# EAGLE library part SN74LVC112ADGVR (library bc_custom)
Dual Negative-Edge-Triggered J-K Flip-Flop With Clear And Preset
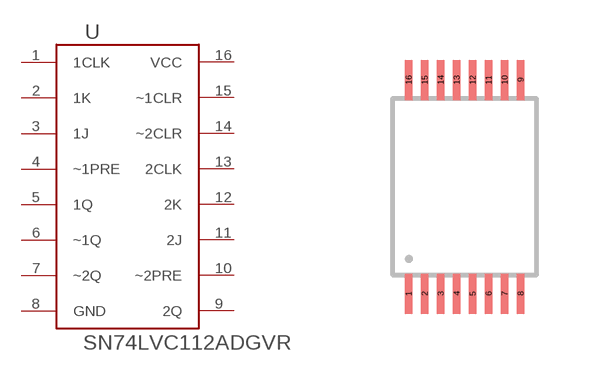
[diagram p2: symbol with the pads of SN74LVC112ADGVR; footprint SN74LVC112ADGVR]

Designator prefix U

## SN74LVC112ADGVR  [SN74LVC112ADGVR]
1  1CLK
2  1K
3  1J
4  ~1PRE
5  1Q
6  ~1Q
7  ~2Q
8  GND
9  2Q
10  ~2PRE
11  2J
12  2K
13  2CLK
14  ~2CLR
15  ~1CLR
16  VCC

## Footprint SN74LVC112ADGVR (pad centres in mm)
smd 0.18 x 1: 1 -1.4,-2.675; 2 -1,-2.675; 3 -0.6,-2.675; 4 -0.2,-2.675; 5 0.2,-2.675; 6 0.6,-2.675; 7 1,-2.675; 8 1.4,-2.675; 9 1.4,2.675; 10 1,2.675; 11 0.6,2.675; 12 0.2,2.675; 13 -0.2,2.675; 14 -0.6,2.675; 15 -1,2.675; 16 -1.4,2.675